# EAGLE library part LD29300P2MTR (library Pygmy)
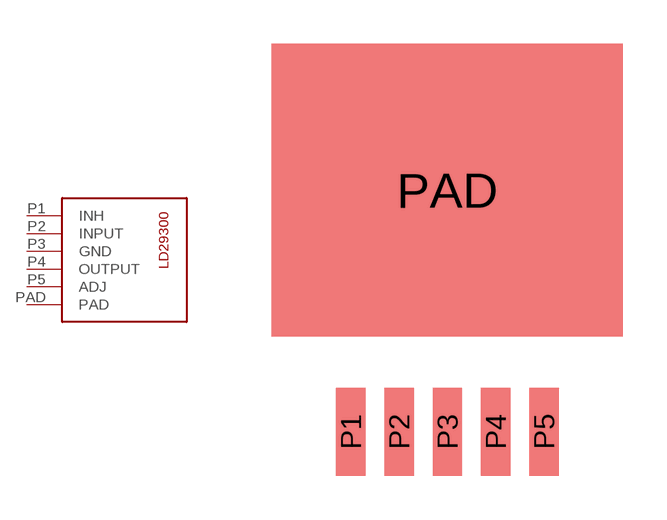
[diagram p64: symbol with the pads of P2PAK/A; footprint P2PAK/A]

Designator prefix -

## LD29300P2MTR  [P2PAK/A]
P1  INH
P2  INPUT
P3  GND
P4  OUTPUT
P5  ADJ
PAD  PAD

## Footprint P2PAK/A (pad centres in mm)
smd 1 x 3: P1 0,0; P2 1.65,0; P3 3.3,0; P4 4.95,0; P5 6.6,0
smd 12 x 10: PAD 3.3,8.25